# Altium schematic symbol library LMV358DR2G.SchLib: 1 symbol
Pins are listed as number, name and electrical type; pins without a type are passive.

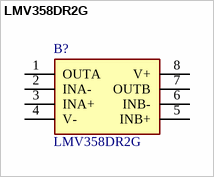
[diagram p0: symbol LMV358DR2G]

## LMV358DR2G
designator B?
Manufacturer_Name: onsemi; Geometry.Height: 1.75mm; Mouser Part Number: 863-LMV358DR2G; Mouser Price/Stock: https://www.mouser.co.uk/ProductDetail/onsemi/LMV358DR2G?qs=yU2N9dt%252Brfmin4l%252BflhzoQ%3D%3D; Manufacturer_Part_Number: LMV358DR2G; Description: *; Datasheet Link: https://datasheet.datasheetarchive.com/originals/distributors/SFDatasheet-7/sf-000148827.pdf
footprint SOIC127P600X175-8N
pins: 1 OUTA, 2 INA-, 3 INA+, 4 V-, 5 INB+, 6 INB-, 7 OUTB, 8 V+